# EAGLE library part FTS-103-03-L-D (library Samtec127)
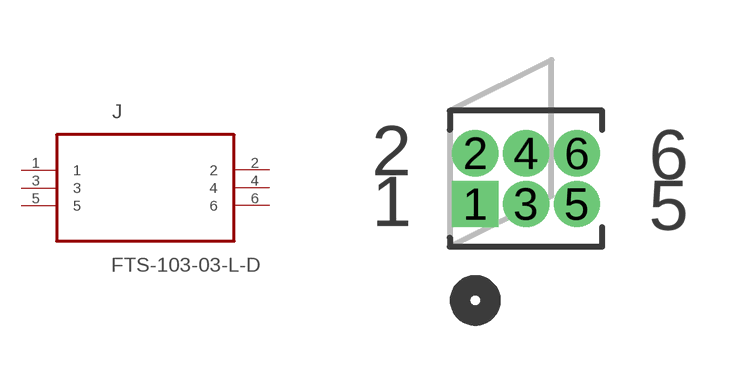
[diagram p1: symbol with the pads of SAMTEC_FTS-103-03-L-D; footprint SAMTEC_FTS-103-03-L-D]

Designator prefix J

## FTS-103-03-L-D  [SAMTEC_FTS-103-03-L-D]
1  1  pas
2  2  pas
3  3  pas
4  4  pas
5  5  pas
6  6  pas

## Footprint SAMTEC_FTS-103-03-L-D (pad centres in mm)
drill 0.65 square: 1 -2.54,-1.27
drill 0.65 pad 1.016: 2 -2.54,0; 3 -1.27,-1.27; 4 -1.27,0; 5 0,-1.27
drill 0.65 pad 0.813: 6 0,0